# Altium schematic symbol library smallTV_screenboard.SchLib: 9 symbols
Pins are listed as number, name and electrical type; pins without a type are passive.

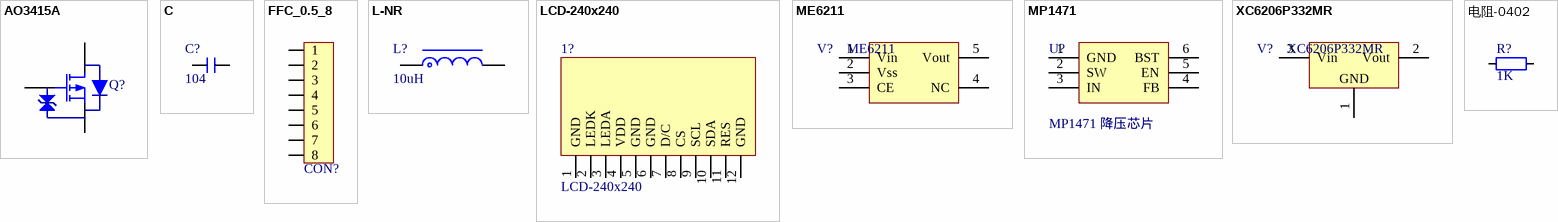
[diagram p0: symbols AO3415A to 电阻-0402]

## AO3415A
designator Q?  (value not drawn)
MOSFET; Published: 8-Jun-2000; LatestRevisionDate: 17-Jul-2002; LatestRevisionNote: Re-released for DXP Platform.; PackageVersion: 1995/1996; PackageReference: E3; Publisher: Altium Limited; PackageDescription: TO, Flat Index; 3 In-Line, Axial Leads; Body Dia. 4.6mm; Lead Dia. 0.5 mm (max)
footprint SOT23-3 (SOT23, 3-Leads, Body 3.1x3.0mm (max), Pitch 0.95mm, IPC Medium Density)
pins: 1 G, 2 S, 3 D

## C
designator C?, comment 104
无极性贴片电容; 材质: X7R; BOM名称: 无极性贴片电容
footprint C 0201_L (无极性贴片电容)
footprint C 0402_L (无极性贴片电容)
footprint C 0603_L (无极性贴片电容)
footprint C 0805_L (无极性贴片电容)
footprint C 1206_L (无极性贴片电容)
footprint C 1210_L (无极性贴片电容)
footprint C 1808_L (无极性贴片电容)
footprint C 1812_L (无极性贴片电容)
footprint C 1825_L (无极性贴片电容)
footprint C 2225_L (无极性贴片电容)
footprint C 0201_M (无极性贴片电容)
footprint C 0402_M (无极性贴片电容)
footprint C 0603_M (无极性贴片电容)
footprint C 0805_M (无极性贴片电容)
footprint C 1206_M (无极性贴片电容)
footprint C 1210_M (无极性贴片电容)
footprint C 1808_M (无极性贴片电容)
footprint C 1812_M (无极性贴片电容)
footprint C 1825_M (无极性贴片电容)
footprint C 2225_M (无极性贴片电容)
pins: 1, 2

## FFC_0.5_8
designator CON?  (value not drawn)
FFC; System: Connector
footprint FFC_0.5_8
pins: 1, 2, 3, 4, 5, 6, 7, 8

## L-NR
designator L?, comment 10uH
NR磁胶电感; BOM名称: NR磁胶电感
footprint NR2520 (2.5mm*2.0mm*1.0mm(长*宽*高）)
footprint NR3010 (3.0mm*3.0mm*1.0mm(长*宽*高）)
footprint NR3012 (3.0mm*3.0mm*1.2mm(长*宽*高）)
footprint NR3015 (3.0mm*3.0mm*1.5mm(长*宽*高）)
footprint NR4010 (4.0mm*4.0mm*1.0mm(长*宽*高）)
footprint NR4018 (4.0mm*4.0mm*1.8mm(长*宽*高）)
footprint NR4020 (4.0mm*4.0mm*2.0mm(长*宽*高）)
footprint NR4026 (4.0mm*4.0mm*2.6mm(长*宽*高）)
footprint NR4030 (4.0mm*4.0mm*3.0mm(长*宽*高）)
footprint NR5012 (5.0mm*5.0mm*1.2mm(长*宽*高）)
footprint NR5020 (5.0mm*5.0mm*2.0mm(长*宽*高）)
footprint NR5040 (5.0mm*5.0mm*4.0mm(长*宽*高）)
footprint NR6020 (6.0mm*6.0mm*2.0mm(长*宽*高）)
footprint NR6028 (6.0mm*6.0mm*2.8mm(长*宽*高）)
footprint NR6045 (6.0mm*6.0mm*4.5mm(长*宽*高）)
footprint NR8040 (8.0mm*8.0mm*4.0mm(长*宽*高）)
pins: 1, 2

## LCD-240x240
designator 1?
显示屏
footprint LCD-240x240
footprint LCD-240x240-NoHole
pins: 1 GND, 2 LEDK, 3 LEDA, 4 VDD, 5 GND, 6 GND, 7 D/C, 8 CS, 9 SCL, 10 SDA, 11 RES, 12 GND

## ME6211
designator V?
低功耗LDO; BOM名称: 低功耗LDO
footprint SOT23-5L (3x1.6x1.1mm(长宽高))
pins: 1 Vin, 2 Vss, 3 CE, 4 NC, 5 Vout

## MP1471
designator U?, comment MP1471 降压芯片
DC降压芯片; BOM名称: DC降压芯片
footprint SOT23-6L (3x1.6x1.1mm(长宽高))
footprint SOT23-6N (3x1.6x1.1mm(长宽高))
footprint SOT23-6M (3x1.6x1.1mm(长宽高))
pins: 1 GND, 2 SW, 3 IN, 4 FB, 5 EN, 6 BST

## XC6206P332MR
designator V?
低压差线性稳压芯片; BOM名称: 低压差线性稳压芯片
footprint SOT23-3N (3x1.3x1mm(长宽高))
footprint SOT23-3M (3x1.3x1mm(长宽高))
footprint SOT23-3L (3x1.3x1mm(长宽高))
pins: 1 GND, 2 Vout, 3 Vin

## 电阻-0402
designator R?, comment 1K
Resistor; Value: 22R
footprint RES_0402
pins: 1, 2